# EAGLE library part NPIC6C596 (library jasons_stuff)
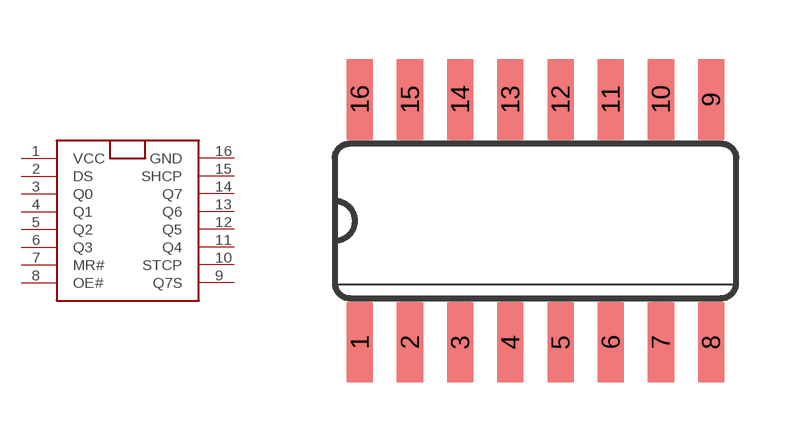
[diagram p51: symbol with the pads of SO16; footprint SO16]

Designator prefix -

## NPIC6C596  [SO16]
1  VCC  pwr
2  DS  in
3  Q0  oc
4  Q1  oc
5  Q2  oc
6  Q3  oc
7  MR#  in
8  OE#  in
9  Q7S  out
10  STCP  in
11  Q4  oc
12  Q5  oc
13  Q6  oc
14  Q7  oc
15  SHCP  in
16  GND  pwr

## Footprint SO16 (pad centres in mm)
Small Outline package 150 mil
smd 0.66 x 2.032: 1 -4.445,-3.073; 2 -3.175,-3.073; 3 -1.905,-3.073; 4 -0.635,-3.073; 5 0.635,-3.073; 6 1.905,-3.073; 7 3.175,-3.073; 8 4.445,-3.073; 9 4.445,3.073; 10 3.175,3.073; 11 1.905,3.073; 12 0.635,3.073; 13 -0.635,3.073; 14 -1.905,3.073; 15 -3.175,3.073; 16 -4.445,3.073